# EAGLE library part BUTTON_PAD-2X2 (library p.peter-passives)
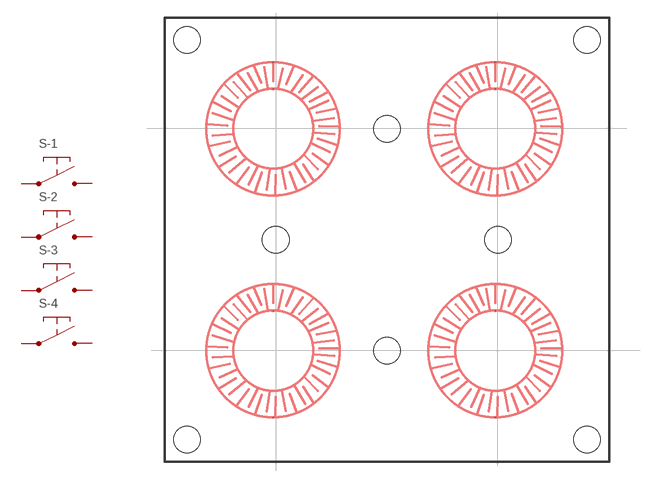
[diagram p1: symbol with the pads of BUTTONPAD-2X2; footprint BUTTONPAD-2X2]

Designator prefix S; gates -1=SWITCH-OFF -2=SWITCH-OFF -3=SWITCH-OFF -4=SWITCH-OFF

## BUTTON_PAD-2X2  [BUTTONPAD-2X2]
1I  -1:P$1
1O  -1:P$2
2I  -2:P$1
2O  -2:P$2
3I  -3:P$1
3O  -3:P$2
4I  -4:P$1
4O  -4:P$2

## Footprint BUTTONPAD-2X2 (pad centres in mm)
smd 0.254 x 0.254: 1I 12.2,42; 1O 12.2,45; 2I 37.2,42; 2O 37.2,45; 3I 37.2,17; 3O 37.2,5; 4I 12.2,17; 4O 12.2,5
hole 3 at 12.5,25
hole 3 at 25,37.5
hole 3 at 37.5,25
hole 3 at 25,12.5
hole 3 at 2.5,2.5
hole 3 at 2.5,47.5
hole 3 at 47.5,47.5
hole 3 at 47.5,2.5